# Altium footprint library SMD Resistor Pad Lib.PcbLib: 8 footprints
Each footprint in its own frame and in the unit in brackets; x right, y up, seen from the top. Pads: shape width x height; smd on the part's side, far side on the other; paste and mask are expansions set on the pad; w line width, h text height; cw(c..) or ccw(c..) is an arc to the next point about the centre after c.
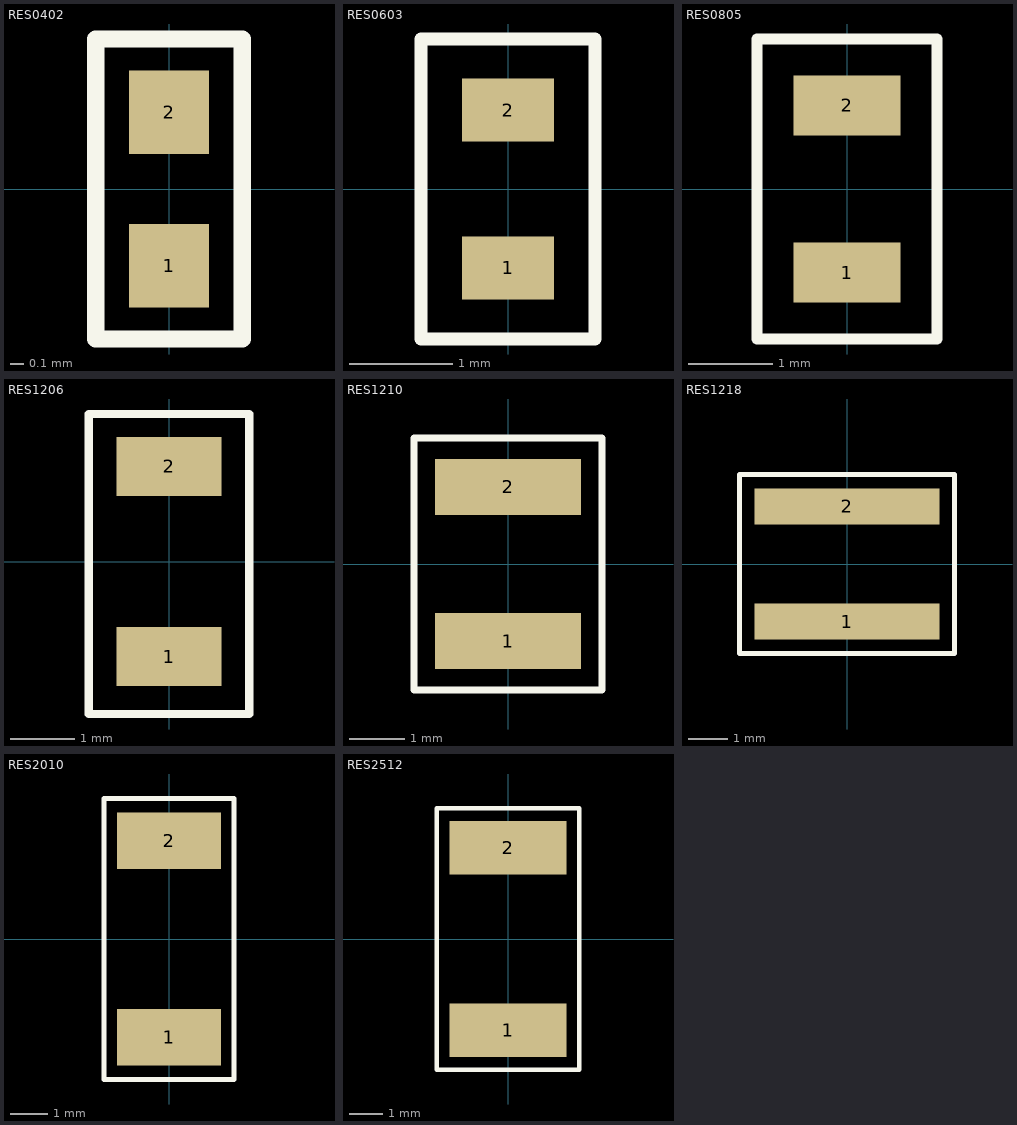
[diagram p0: the footprints below, top view; thin cyan lines are the x and y axes]

## RES0402 [mil] "0402 Reflow Pad"
pads (2):
  rect 23x24 smd: 1(0,-22) 2(0,22)
Top Overlay:
  lines w5: -21,-43 -21,43 21,43 21,-43 -21,-43
3D body "SMD Resistor 0402.STEP": height 13.86, standoff 0, extent -9.84,-19.69 9.84,19.68

## RES0603 [mil] "0603 Reflow Pad"
pads (2):
  rect 35x24 smd: 1(0,-30) 2(0,30)
Top Overlay:
  lines w5: -33,-57 -33,57 33,57 33,-57 -33,-57
3D body "SMD Resistor 0603.STEP": height 17.8, standoff 0, extent -15.75,-31.49 15.75,31.51

## RES0805 [mil] "0805 Reflow Pad"
pads (2):
  rect 50x28 smd: 1(0,-39) 2(0,39)
Top Overlay:
  lines w5: -42,-70 -42,70 42,70 42,-70 -42,-70
3D body "SMD Resistor 0805.STEP": height 19.76, standoff 0, extent -24.61,-39.37 24.6,39.37

## RES1206 [mil] "1206 Reflow Pad"
pads (2):
  rect 64x36 smd: 1(0,-58) 2(0,58)
Top Overlay:
  lines w5: -49,-93 -49,90 49,90 49,-93 -49,-93
3D body "SMD Resistor 1206.STEP": height 21.73, standoff 0, extent -31.5,-61.02 31.5,61.03

## RES1210 [mil] "1210 Reflow Pad"
pads (2):
  rect 104x40 smd: 1(0,-55) 2(0,55)
Top Overlay:
  lines w5: -67,-90 -67,90 67,90 67,-90 -67,-90
3D body "SMD Resistor 1210.STEP": height 21.73, standoff 0, extent -51.18,-61.02 51.18,61.03

## RES1218 [mil] "1218 Reflow Pad"
pads (2):
  rect 186x36 smd: 1(0,-58) 2(0,58)
Top Overlay:
  lines w5: -108,-90 -108,90 108,90 108,-90 -108,-90
3D body "SMD Resistor 1218.STEP": height 21.73, standoff 0, extent -90.55,-61.02 90.55,61.03

## RES2010 [mil] "2010 Reflow Pad"
pads (2):
  rect 110x60 smd: 1(0,-104) 2(0,104)
Top Overlay:
  lines w5: -69,-149 -69,149 69,149 69,-149 -69,-149
3D body "SMD Resistor 2010.STEP": height 21.73, standoff 0, extent -49.21,-98.42 49.21,98.43

## RES2512 [mil] "2512 Reflow Pad"
pads (2):
  rect 140x64 smd: 1(0,-109) 2(0,109)
Top Overlay:
  lines w5: -85,-156 85,-156 85,156 -85,156 -85,-156
3D body "SMD Resistor 2512.STEP": height 21.73, standoff 0, extent -61.03,-124.99 61.02,125.01